# EAGLE library part ESP32-WROOM-32 (library esp32-component-libraries_v128)
Bluetooth, WiFi Transceiver Module 2.4GHz ~ 2.5GHz Surface Mount
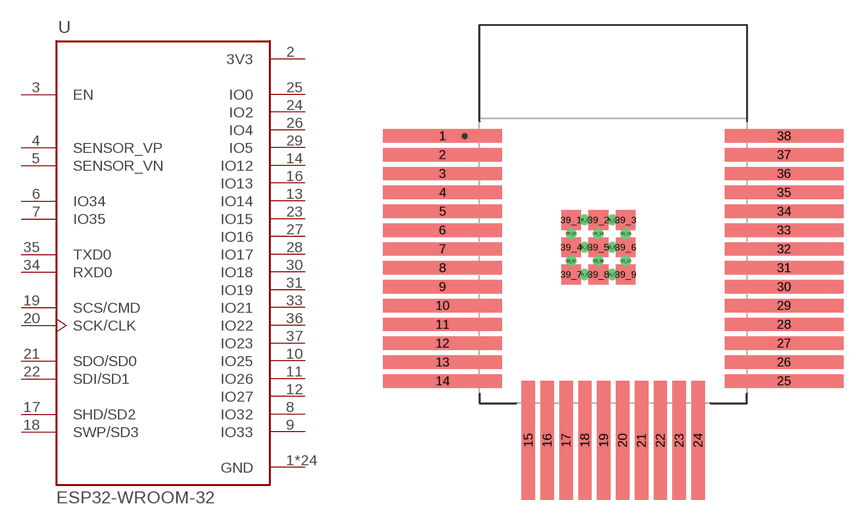
[diagram p3: symbol with the pads of MODULE_ESP32-WROOM-32; footprint MODULE_ESP32-WROOM-32]

Designator prefix U

## ESP32-WROOM-32 (MANUFACTURER: Espressif Systems; MAXIMUM_PACKAGE_HEIGHT: 3.2 mm; PARTREV: 2.9; STANDARD: Manufacturer Recommendations)  [MODULE_ESP32-WROOM-32]
1  GND  pwr
2  3V3  pwr
3  EN  in
4  SENSOR_VP  in
5  SENSOR_VN  in
6  IO34  in
7  IO35  in
8  IO32
9  IO33
10  IO25
11  IO26
12  IO27
13  IO14
14  IO12
15  GND  pwr
16  IO13
17  SHD/SD2
18  SWP/SD3
19  SCS/CMD
20  SCK/CLK
21  SDO/SD0
22  SDI/SD1
23  IO15
24  IO2
25  IO0
26  IO4
27  IO16
28  IO17
29  IO5
30  IO18
31  IO19
33  IO21
34  RXD0
35  TXD0
36  IO22
37  IO23
38  GND  pwr
39_1  GND  pwr
39_2  GND  pwr
39_3  GND  pwr
39_4  GND  pwr
39_5  GND  pwr
39_6  GND  pwr
39_7  GND  pwr
39_8  GND  pwr
39_9  GND  pwr
39_10  GND  pwr
39_11  GND  pwr
39_12  GND  pwr
39_13  GND  pwr
39_14  GND  pwr
39_15  GND  pwr
39_16  GND  pwr
39_17  GND  pwr
39_18  GND  pwr
39_19  GND  pwr
39_20  GND  pwr
39_21  GND  pwr

## Footprint MODULE_ESP32-WROOM-32 (pad centres in mm)
smd 8 x 0.9: 1 -11.5,5.26; 2 -11.5,3.99; 3 -11.5,2.72; 4 -11.5,1.45; 5 -11.5,0.18; 6 -11.5,-1.09; 7 -11.5,-2.36; 8 -11.5,-3.63; 9 -11.5,-4.9; 10 -11.5,-6.17; 11 -11.5,-7.44; 12 -11.5,-8.71; 13 -11.5,-9.98; 14 -11.5,-11.25; 25 11.5,-11.25; 26 11.5,-9.98; 27 11.5,-8.71; 28 11.5,-7.44; 29 11.5,-6.17; 30 11.5,-4.9; 31 11.5,-3.63; 32 11.5,-2.36; 33 11.5,-1.09; 34 11.5,0.18; 35 11.5,1.45; 36 11.5,2.72; 37 11.5,3.99; 38 11.5,5.26
smd 0.9 x 8: 15 -5.715,-15.25; 16 -4.445,-15.25; 17 -3.175,-15.25; 18 -1.905,-15.25; 19 -0.635,-15.25; 20 0.635,-15.25; 21 1.905,-15.25; 22 3.175,-15.25; 23 4.445,-15.25; 24 5.715,-15.25
smd 1.33 x 1.33: 39_1 -2.835,-0.405; 39_2 -1,-0.405; 39_3 0.835,-0.405; 39_4 -2.835,-2.24; 39_5 -1,-2.24; 39_6 0.835,-2.24; 39_7 -2.835,-4.075; 39_8 -1,-4.075; 39_9 0.835,-4.075
drill 0.2 pad 0.3: 39_10 -1.917,-0.405; 39_11 -0.083,-0.405; 39_12 -2.835,-1.323; 39_13 -1,-1.323; 39_14 0.835,-1.323; 39_15 -1.917,-2.24; 39_16 -0.083,-2.24; 39_17 -2.835,-3.158; 39_18 -1,-3.158; 39_19 0.835,-3.158; 39_20 -1.917,-4.075; 39_21 -0.083,-4.075